# Altium footprint library 电感.PcbLib: 8 footprints
Each footprint in its own frame and in the unit in brackets; x right, y up, seen from the top. Pads: shape width x height; smd on the part's side, far side on the other; paste and mask are expansions set on the pad; w line width, h text height; cw(c..) or ccw(c..) is an arc to the next point about the centre after c.
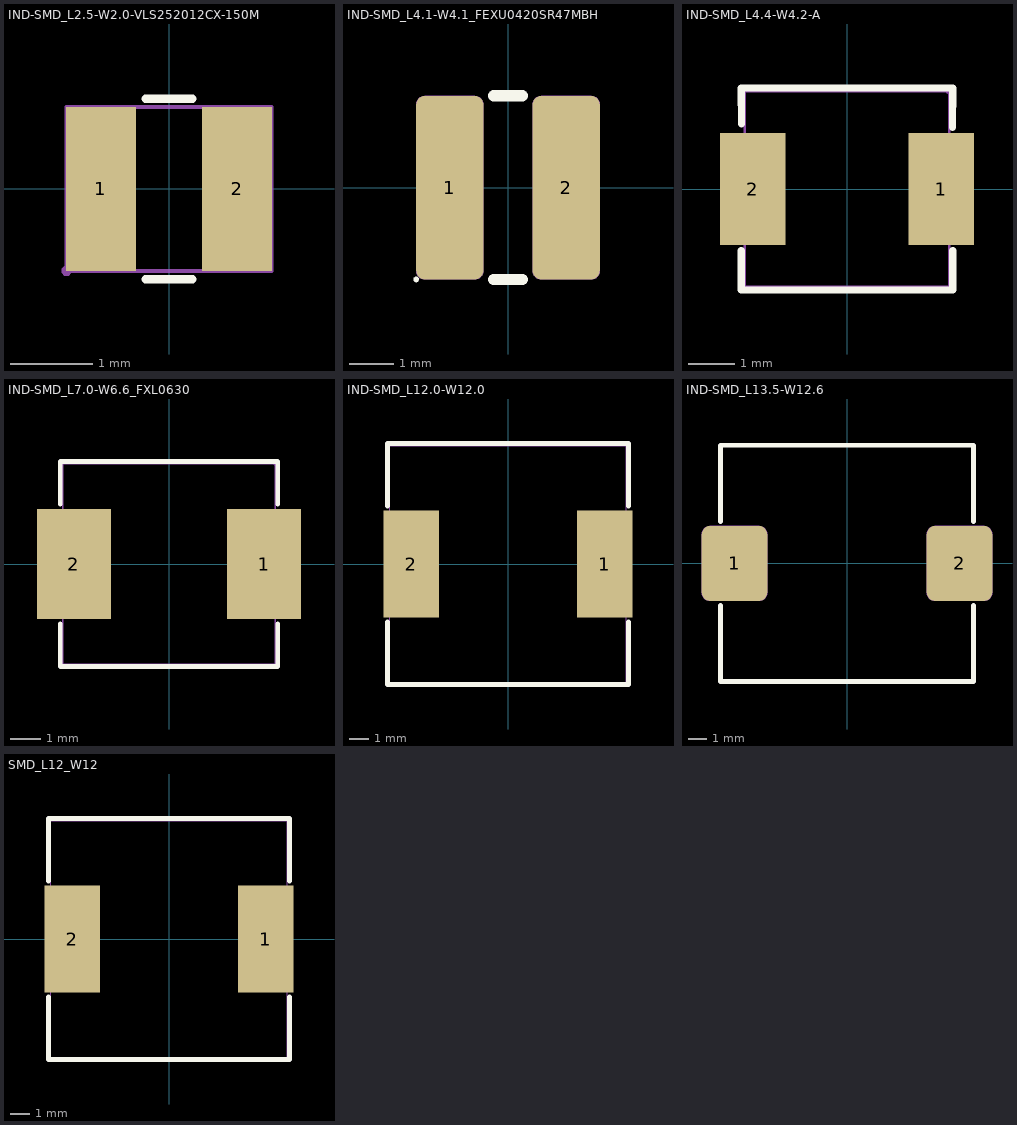
[diagram p0: the footprints below, top view; thin cyan lines are the x and y axes]

## IND-SMD_L2.5-W2.0-VLS252012CX-150M [mm]
pads (2):
  rect 0.85x2 smd: 1(-0.83,0) 2(0.83,0)
Top Overlay:
  lines w0.102: -0.288,-1.1 0.287,-1.1 ; -0.288,1.1 0.287,1.1
Mechanical 15:
  region: 0.43,1 1.23,1 1.23,-1 0.43,-1
  region: -1.23,1 -0.43,1 -0.43,-1 -1.23,-1
  region: -1.19,-1 -1.19,-0.975 -1.225,-0.94 -1.275,-0.94 -1.31,-0.975 -1.31,-1 -1.31,-1.025 -1.275,-1.06 -1.225,-1.06 -1.19,-1.025 -1.19,-1
  lines w0.051: -1.25,-1 1.25,-1 1.25,1 -1.25,1 -1.25,-1

## IND-SMD_L4.1-W4.1_FEXU0420SR47MBH [mm] "4.1*4.1"
height -909.212
pads (2):
  rrect25% 1.5x4.1 smd mask+0.05: 1(-1.3,0) 2(1.3,0)
Top Overlay:
  region: -1.99,-2.05 -1.991,-2.038 -1.995,-2.027 -2,-2.017 -2.008,-2.008 -2.017,-2 -2.027,-1.995 -2.038,-1.991 -2.05,-1.99 -2.062,-1.991 -2.073,-1.995 -2.083,-2 -2.092,-2.008 -2.1,-2.017 -2.105,-2.027 -2.109,-2.038 -2.11,-2.05 -2.109,-2.062 -2.105,-2.073 -2.1,-2.083 -2.092,-2.092 -2.083,-2.1 -2.073,-2.105 -2.062,-2.109 -2.05,-2.11 -2.038,-2.109 -2.027,-2.105 -2.017,-2.1 -2.008,-2.092 -2,-2.083 -1.995,-2.073 -1.991,-2.062
  lines w0.254: -0.319,-2.05 0.319,-2.05 ; -0.319,2.05 0.319,2.05
Mechanical 9:
  region: -1.862,-2.05 -0.737,-2.05 -0.701,-2.046 -0.666,-2.036 -0.633,-2.018 -0.605,-1.995 -0.582,-1.967 -0.564,-1.934 -0.554,-1.899 -0.55,-1.862 -0.55,1.862 -0.554,1.899 -0.564,1.934 -0.582,1.967 -0.605,1.995 -0.633,2.018 -0.666,2.036 -0.701,2.046 -0.737,2.05 -1.862,2.05 -1.899,2.046 -1.934,2.036 -1.967,2.018 -1.995,1.995 -2.018,1.967 -2.036,1.934 -2.046,1.899 -2.05,1.862 -2.05,-1.862 -2.046,-1.899 -2.036,-1.934 -2.018,-1.967 -1.995,-1.995 -1.967,-2.018 -1.934,-2.036 -1.899,-2.046 -1.862,-2.05
  region: 0.737,-2.05 1.862,-2.05 1.899,-2.046 1.934,-2.036 1.967,-2.018 1.995,-1.995 2.018,-1.967 2.036,-1.934 2.046,-1.899 2.05,-1.862 2.05,1.862 2.046,1.899 2.036,1.934 2.018,1.967 1.995,1.995 1.967,2.018 1.934,2.036 1.899,2.046 1.862,2.05 0.737,2.05 0.701,2.046 0.666,2.036 0.633,2.018 0.605,1.995 0.582,1.967 0.564,1.934 0.554,1.899 0.55,1.862 0.55,-1.862 0.554,-1.899 0.564,-1.934 0.582,-1.967 0.605,-1.995 0.633,-2.018 0.666,-2.036 0.701,-2.046 0.737,-2.05
3D body "IND-SMD_L4.1-W4.1_FEXU0420SR47MBH.step": height 1, standoff 0, extent -2.05,-2.05 2.05,2.05

## IND-SMD_L4.4-W4.2-A [mm]
pads (2):
  rect 1.4x2.4 smd: 1(2.028,0) 2(-2.028,0)
Top Overlay:
  lines w0.152: -2.276,-1.327 -2.276,-2.176 2.276,-2.176 2.276,-1.321 ; -2.269,1.398 -2.276,2.176 2.276,2.176 2.266,1.329
Mechanical 15:
  region: 2.26,2.1 2.26,2.125 2.225,2.16 2.175,2.16 2.14,2.125 2.14,2.1 2.14,2.075 2.175,2.04 2.225,2.04 2.26,2.075 2.26,2.1
  region: -2.2,1 -1.4,1 -1.4,-1 -2.2,-1
  region: 1.4,1 2.2,1 2.2,-1 1.4,-1
  lines w0.051: -2.2,-2.1 -2.2,2.1 2.2,2.1 2.2,-2.1 -2.2,-2.1

## IND-SMD_L7.0-W6.6_FXL0630 [mm]
pads (2):
  rect 2.424x3.62 smd: 1(3.128,0) 2(-3.128,0)
Top Overlay:
  lines w0.152: -3.576,-1.962 -3.576,-3.376 3.576,-3.376 3.576,-1.962 ; -3.576,1.962 -3.576,3.376 3.576,3.376 3.576,1.962
Mechanical 15:
  region: 3.5,-1.6 3.5,1.6 2,1.6 2,-1.6
  region: -3.5,-1.6 -3.5,1.6 -2,1.6 -2,-1.6
  region: 3.56,3.3 3.56,3.325 3.525,3.359 3.475,3.359 3.44,3.325 3.44,3.3 3.44,3.275 3.475,3.241 3.525,3.241 3.56,3.275 3.56,3.3
  lines w0.051: -3.5,-3.3 3.5,-3.3 3.5,3.3 -3.5,3.3 -3.5,-3.3

## IND-SMD_L12.0-W12.0 [mm]
pads (2):
  rect 2.8x5.4 smd: 1(4.9,0) 2(-4.9,0)
Top Overlay:
  lines w0.254: -6.096,-2.931 -6.096,-6.096 6.096,-6.096 6.096,-2.931 ; -6.096,2.931 -6.096,6.096 6.096,6.096 6.096,2.931
Mechanical 15:
  region: 6.06,6 6.06,6.025 6.025,6.06 5.975,6.06 5.94,6.025 5.94,6 5.94,5.975 5.975,5.94 6.025,5.94 6.06,5.975 6.06,6
  region: 6,2.1 6,-2.1 4,-2.1 4,2.1
  region: -4,2.1 -4,-2.1 -6,-2.1 -6,2.1
  lines w0.051: -6,-6 -6,6 6,6 6,-6 -6,-6

## IND-SMD_L13.5-W12.6 [mm] "-; SMD; SMD,12.6x13.5mm; SMD,13.45x12.6x3.3mm; 1365; CD1313; IND-SMD_L13.5-W12.6; SMD,13.45x12.6x6.5mm; 1260; SMD,12.6x13.45mm; SMD,1250; SMD,1265; SMD,13.45x12.6x4.8mm; SMD,12.6X13.5mm"
height -4546.083
pads (2):
  rrect25% 3.5x4 smd mask+0.05: 1(-6,0) 2(6,0)
Top Overlay:
  region: -6.69,-6.3 -6.691,-6.288 -6.695,-6.277 -6.7,-6.267 -6.708,-6.258 -6.717,-6.25 -6.727,-6.245 -6.738,-6.241 -6.75,-6.24 -6.762,-6.241 -6.773,-6.245 -6.783,-6.25 -6.792,-6.258 -6.8,-6.267 -6.805,-6.277 -6.809,-6.288 -6.81,-6.3 -6.809,-6.312 -6.805,-6.323 -6.8,-6.333 -6.792,-6.342 -6.783,-6.35 -6.773,-6.355 -6.762,-6.359 -6.75,-6.36 -6.738,-6.359 -6.727,-6.355 -6.717,-6.35 -6.708,-6.342 -6.7,-6.333 -6.695,-6.323 -6.691,-6.312
  lines w0.254: -6.75,-2.23 -6.75,-6.3 6.75,-6.3 6.75,-2.23 ; -6.75,2.23 -6.75,6.3 6.75,6.3 6.75,2.23
Mechanical 9:
  region: 7.75,-1.562 7.75,1.562 7.742,1.648 7.717,1.73 7.676,1.806 7.622,1.872 7.556,1.926 7.48,1.967 7.398,1.992 7.312,2 4.687,2 4.602,1.992 4.52,1.967 4.444,1.926 4.378,1.872 4.324,1.806 4.283,1.73 4.258,1.648 4.25,1.562 4.25,-1.562 4.258,-1.648 4.283,-1.73 4.324,-1.806 4.378,-1.872 4.444,-1.926 4.52,-1.967 4.602,-1.992 4.687,-2 7.312,-2 7.398,-1.992 7.48,-1.967 7.556,-1.926 7.622,-1.872 7.676,-1.806 7.717,-1.73 7.742,-1.648 7.75,-1.562
  region: -4.25,-1.562 -4.25,1.562 -4.258,1.648 -4.283,1.73 -4.324,1.806 -4.378,1.872 -4.444,1.926 -4.52,1.967 -4.602,1.992 -4.687,2 -7.312,2 -7.398,1.992 -7.48,1.967 -7.556,1.926 -7.622,1.872 -7.676,1.806 -7.717,1.73 -7.742,1.648 -7.75,1.562 -7.75,-1.562 -7.742,-1.648 -7.717,-1.73 -7.676,-1.806 -7.622,-1.872 -7.556,-1.926 -7.48,-1.967 -7.398,-1.992 -7.312,-2 -4.687,-2 -4.602,-1.992 -4.52,-1.967 -4.444,-1.926 -4.378,-1.872 -4.324,-1.806 -4.283,-1.73 -4.258,-1.648 -4.25,-1.562
3D body "IND-SMD_L13.5-W12.6-H5.0.step": height 5, standoff 0, extent -6.75,-6.3 6.75,6.3

## PCBComponent_1 [mm]

## SMD_L12_W12 [mm]
pads (2):
  rect 2.8x5.4 smd: 1(4.9,0) 2(-4.9,0)
Top Overlay:
  lines w0.254: -6.096,-2.931 -6.096,-6.096 6.096,-6.096 6.096,-2.931 ; -6.096,2.931 -6.096,6.096 6.096,6.096 6.096,2.931
Mechanical 15:
  region: -4,2.1 -4,-2.1 -6,-2.1 -6,2.1
  region: 6,2.1 6,-2.1 4,-2.1 4,2.1
  region: 6.06,6 6.06,6.025 6.025,6.06 5.975,6.06 5.94,6.025 5.94,6 5.94,5.975 5.975,5.94 6.025,5.94 6.06,5.975 6.06,6
  lines w0.051: -6,-6 6,-6 6,6 -6,6 -6,-6